# Altium schematic symbol library MCU_WCH_CH32V2.SchLib: 3 symbols
Pins are listed as number, name and electrical type; pins without a type are passive.

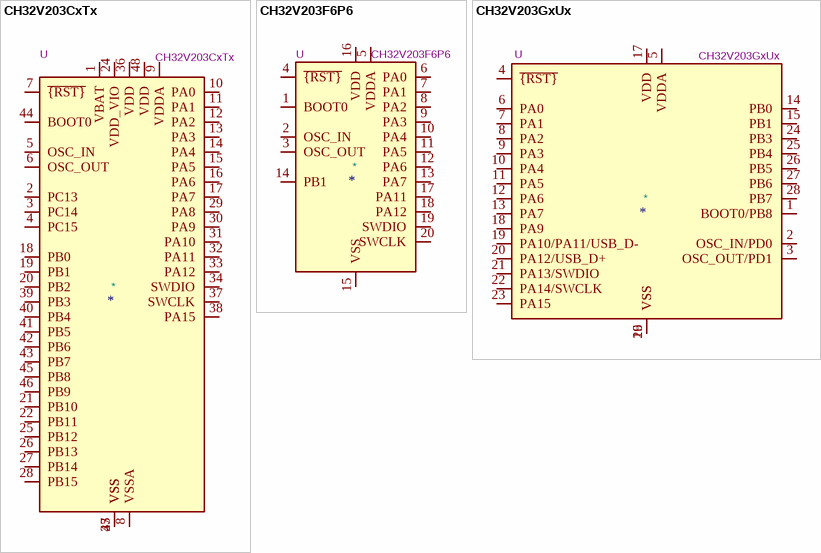
[diagram p0: symbols CH32V203CxTx to CH32V203GxUx]

## CH32V203CxTx
designator *  value CH32V203CxTx  Reference: U
The CH32V203 is an industrial-grade enhanced low-power general-purpose MCU based on 32-bit RISC-V core.; ki_keywords: RISC-V WCH MCU; ki_fp_filters: LQFP*7x7mm*P0.5mm*; Footprint: Package_QFP:LQFP-48_7x7mm_P0.5mm; Datasheet: https://www.wch-ic.com/products/CH32V203.html; Description_: The CH32V203 is an industrial-grade enhanced low-power general-purpose MCU based on 32-bit RISC-V core.
pins: 1 VBAT, 2 PC13, 3 PC14, 4 PC15, 5 OSC_IN, 6 OSC_OUT, 7 ~{{RST}}, 8 VSSA, 9 VDDA, 10 PA0, 11 PA1, 12 PA2, 13 PA3, 14 PA4, 15 PA5, 16 PA6, 17 PA7, 18 PB0, 19 PB1, 20 PB2, 21 PB10, 22 PB11, 23 VSS, 24 VDD_VIO, 25 PB12, 26 PB13, 27 PB14, 28 PB15, 29 PA8, 30 PA9, 31 PA10, 32 PA11, 33 PA12, 34 SWDIO, 35 VSS, 36 VDD, 37 SWCLK, 38 PA15, 39 PB3, 40 PB4, 41 PB5, 42 PB6, 43 PB7, 44 BOOT0, 45 PB8, 46 PB9, 47 VSS, 48 VDD

## CH32V203F6P6
designator *  value CH32V203F6P6  Reference: U
The CH32V203 is an industrial-grade enhanced low-power general-purpose MCU based on 32-bit RISC-V core.; ki_keywords: RISC-V WCH MCU; ki_fp_filters: TSSOP*4.4x6.5mm*P0.65mm*; Footprint: Package_SO:TSSOP-20_4.4x6.5mm_P0.65mm; Datasheet: http://www.wch-ic.com/products/CH32V203.html; Description_: The CH32V203 is an industrial-grade enhanced low-power general-purpose MCU based on 32-bit RISC-V core.
pins: 1 BOOT0, 2 OSC_IN, 3 OSC_OUT, 4 ~{{RST}}, 5 VDDA, 6 PA0, 7 PA1, 8 PA2, 9 PA3, 10 PA4, 11 PA5, 12 PA6, 13 PA7, 14 PB1, 15 VSS, 16 VDD, 17 PA11, 18 PA12, 19 SWDIO, 20 SWCLK

## CH32V203GxUx
designator *  value CH32V203GxUx  Reference: U
NanjingQinheng WCH RISC-V MCU, 32-64KB flash, 10-20KB RAM, 144 MHz, 2.4-3.6V, 24 GPIO, ADC, OpAmp, CAN, USB, WQFN-28; ki_keywords: RISCV WCH MCU; ki_fp_filters: *QFN*4x4mm*P0.4mm*EP2.7x2.7*; Footprint: Package_DFN_QFN:WQFN-28-1EP_4x4mm_P0.4mm_EP2.7x2.7mm; Datasheet: https://www.wch-ic.com/downloads/CH32V203DS0_PDF.html; Description_: NanjingQinheng WCH RISC-V MCU, 32-64KB flash, 10-20KB RAM, 144 MHz, 2.4-3.6V, 24 GPIO, ADC, OpAmp, CAN, USB, WQFN-28
pins: 1 BOOT0/PB8, 2 OSC_IN/PD0, 3 OSC_OUT/PD1, 4 ~{{RST}}, 5 VDDA, 6 PA0, 7 PA1, 8 PA2, 9 PA3, 10 PA4, 11 PA5, 12 PA6, 13 PA7, 14 PB0, 15 PB1, 16 VSS, 17 VDD, 18 PA9, 19 PA10/PA11/USB_D-, 20 PA12/USB_D+, 21 PA13/SWDIO, 22 PA14/SWCLK, 23 PA15, 24 PB3, 25 PB4, 26 PB5, 27 PB6, 28 PB7, 29 VSS